# Altium footprint library MountingHole.PcbLib: 167 footprints (part 5 of 11)
Each footprint in its own frame and in the unit in brackets; x right, y up, seen from the top. Pads: shape width x height; smd on the part's side, far side on the other; paste and mask are expansions set on the pad; w line width, h text height; cw(c..) or ccw(c..) is an arc to the next point about the centre after c.
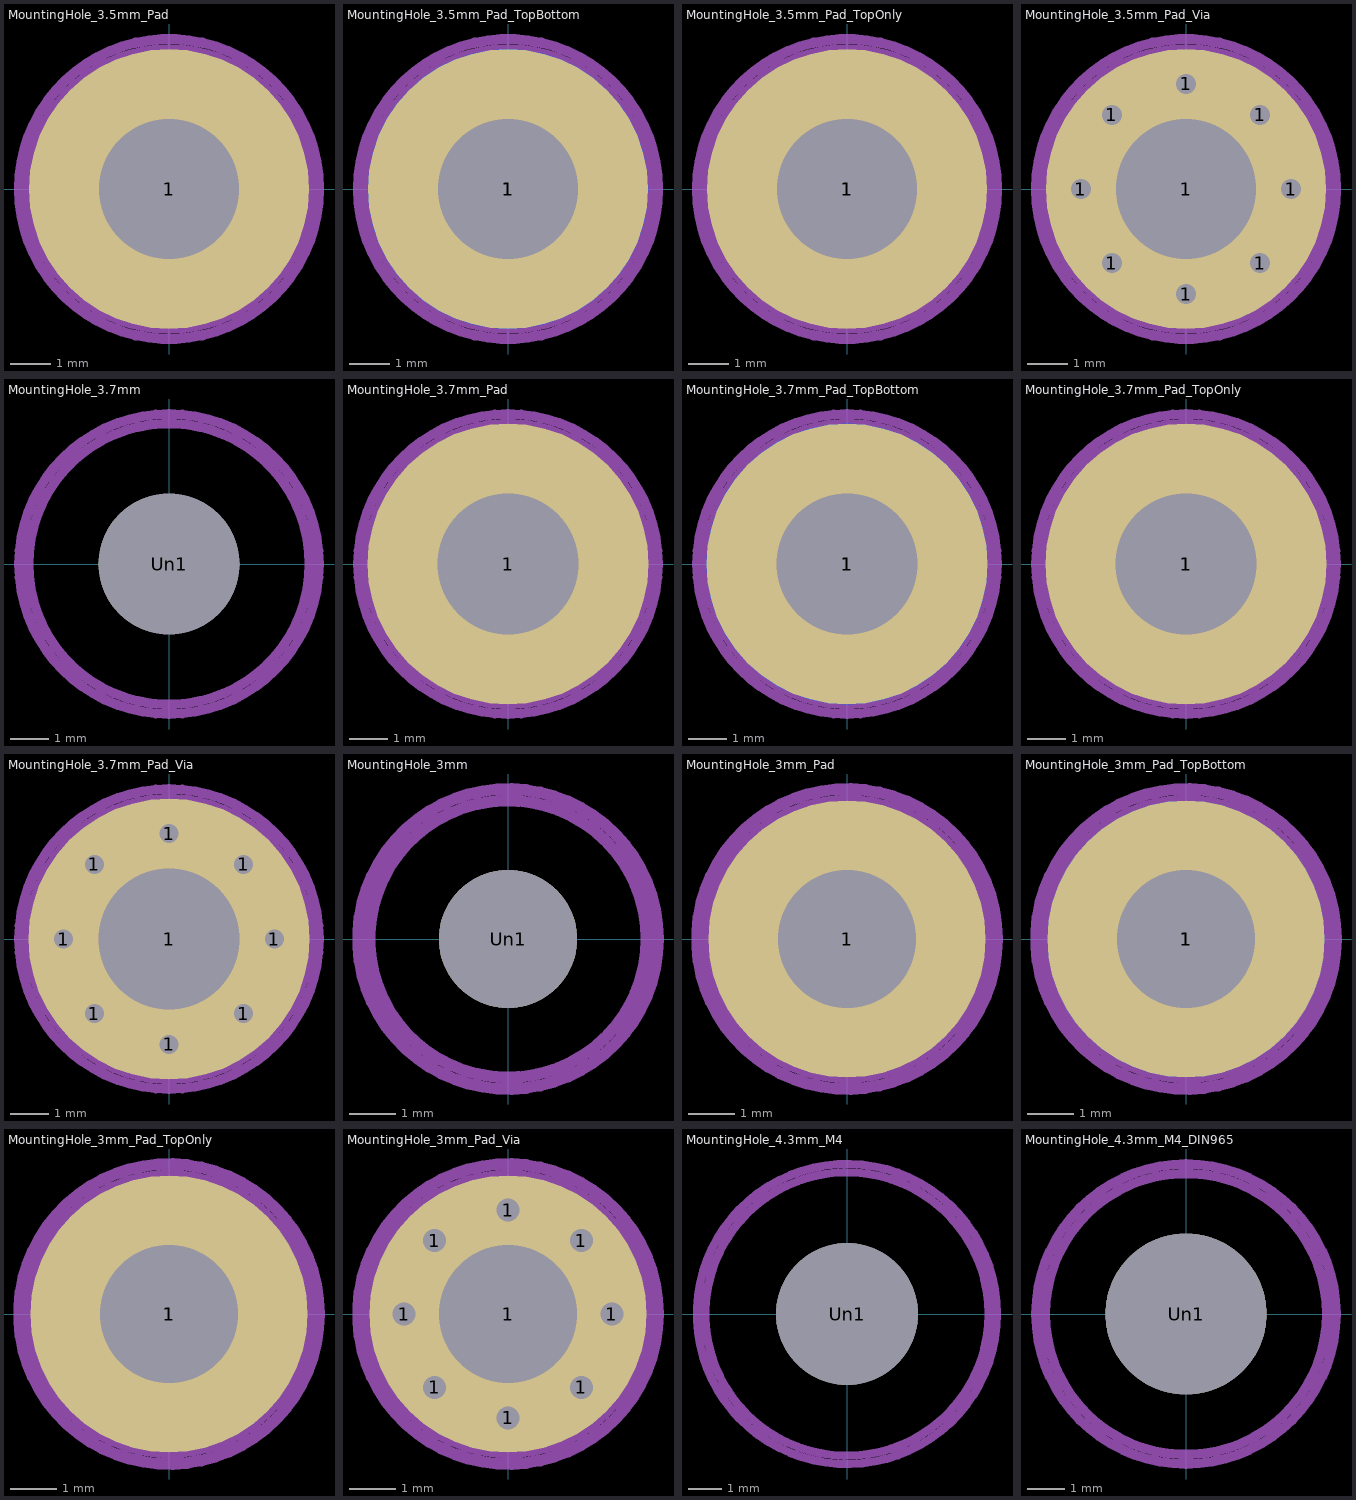
[diagram p4: the footprints below, top view; thin cyan lines are the x and y axes]

## MountingHole_3.5mm_Pad [mm]
pads (1):
  round 7 hole 3.5: 1(0,0)
Top Assembly:
  text "'.Designator'" at -4.047,-0.84 h1
Top Courtyard:
  circle w0.254: c0,0 r3.75
Top Designator:
  text ".Designator" at -7.768,-0.508 h1.52
Cmts.User:
  circle w0.254: c0,0 r3.5

## MountingHole_3.5mm_Pad_TopBottom [mm]
pads (3):
  round 3.9 hole 3.5: 1(0,0)
  round 7 smd: 1(0,0)
  round 7 smd far side: 1(0,0)
Top Assembly:
  text "'.Designator'" at -4.047,-0.84 h1
Top Courtyard:
  circle w0.254: c0,0 r3.75
Top Designator:
  text ".Designator" at -7.768,-0.508 h1.52
Cmts.User:
  circle w0.254: c0,0 r3.5

## MountingHole_3.5mm_Pad_TopOnly [mm]
pads (2):
  round 3.9 hole 3.5: 1(0,0)
  round 7 smd: 1(0,0)
Top Assembly:
  text "'.Designator'" at -4.047,-0.84 h1
Top Courtyard:
  circle w0.254: c0,0 r3.75
Top Designator:
  text ".Designator" at -7.768,-0.508 h1.52
Cmts.User:
  circle w0.254: c0,0 r3.5

## MountingHole_3.5mm_Pad_Via [mm]
pads (9):
  round 0.8 hole 0.5: 1(-2.625,0) 1(-1.856,-1.856) 1(-1.856,1.856) 1(0,-2.625) 1(0,2.625) 1(1.856,-1.856) 1(1.856,1.856) 1(2.625,0)
  round 7 hole 3.5: 1(0,0)
Top Assembly:
  text "'.Designator'" at -4.047,-0.84 h1
Top Courtyard:
  circle w0.254: c0,0 r3.75
Top Designator:
  text ".Designator" at -7.768,-0.508 h1.52
Cmts.User:
  circle w0.254: c0,0 r3.5

## MountingHole_3.7mm [mm]
pads (1):
  round 3.7 hole 3.7: Un1(0,0)
Top Assembly:
  text "'.Designator'" at -4.047,-0.84 h1
Top Courtyard:
  circle w0.254: c0,0 r3.95
Top Designator:
  text ".Designator" at -7.677,-0.508 h1.52
Cmts.User:
  circle w0.254: c0,0 r3.7

## MountingHole_3.7mm_Pad [mm]
pads (1):
  round 7.4 hole 3.7: 1(0,0)
Top Assembly:
  text "'.Designator'" at -4.047,-0.84 h1
Top Courtyard:
  circle w0.254: c0,0 r3.95
Top Designator:
  text ".Designator" at -7.677,-0.508 h1.52
Cmts.User:
  circle w0.254: c0,0 r3.7

## MountingHole_3.7mm_Pad_TopBottom [mm]
pads (3):
  round 4.1 hole 3.7: 1(0,0)
  round 7.4 smd: 1(0,0)
  round 7.4 smd far side: 1(0,0)
Top Assembly:
  text "'.Designator'" at -4.047,-0.84 h1
Top Courtyard:
  circle w0.254: c0,0 r3.95
Top Designator:
  text ".Designator" at -7.677,-0.508 h1.52
Cmts.User:
  circle w0.254: c0,0 r3.7

## MountingHole_3.7mm_Pad_TopOnly [mm]
pads (2):
  round 4.1 hole 3.7: 1(0,0)
  round 7.4 smd: 1(0,0)
Top Assembly:
  text "'.Designator'" at -4.047,-0.84 h1
Top Courtyard:
  circle w0.254: c0,0 r3.95
Top Designator:
  text ".Designator" at -7.677,-0.508 h1.52
Cmts.User:
  circle w0.254: c0,0 r3.7

## MountingHole_3.7mm_Pad_Via [mm]
pads (9):
  round 0.8 hole 0.5: 1(-2.775,0) 1(-1.962,-1.962) 1(-1.962,1.962) 1(0,-2.775) 1(0,2.775) 1(1.962,-1.962) 1(1.962,1.962) 1(2.775,0)
  round 7.4 hole 3.7: 1(0,0)
Top Assembly:
  text "'.Designator'" at -4.047,-0.84 h1
Top Courtyard:
  circle w0.254: c0,0 r3.95
Top Designator:
  text ".Designator" at -7.677,-0.508 h1.52
Cmts.User:
  circle w0.254: c0,0 r3.7

## MountingHole_3mm [mm]
pads (1):
  round 3 hole 3: Un1(0,0)
Top Assembly:
  text "'.Designator'" at -4.047,-0.84 h1
Top Courtyard:
  circle w0.254: c0,0 r3.25
Top Designator:
  text ".Designator" at -7.768,-0.508 h1.52
Cmts.User:
  circle w0.254: c0,0 r3

## MountingHole_3mm_Pad [mm]
pads (1):
  round 6 hole 3: 1(0,0)
Top Assembly:
  text "'.Designator'" at -4.047,-0.84 h1
Top Courtyard:
  circle w0.254: c0,0 r3.25
Top Designator:
  text ".Designator" at -7.768,-0.508 h1.52
Cmts.User:
  circle w0.254: c0,0 r3

## MountingHole_3mm_Pad_TopBottom [mm]
pads (3):
  round 3.4 hole 3: 1(0,0)
  round 6 smd: 1(0,0)
  round 6 smd far side: 1(0,0)
Top Assembly:
  text "'.Designator'" at -4.047,-0.84 h1
Top Courtyard:
  circle w0.254: c0,0 r3.25
Top Designator:
  text ".Designator" at -7.768,-0.508 h1.52
Cmts.User:
  circle w0.254: c0,0 r3

## MountingHole_3mm_Pad_TopOnly [mm]
pads (2):
  round 3.4 hole 3: 1(0,0)
  round 6 smd: 1(0,0)
Top Assembly:
  text "'.Designator'" at -4.047,-0.84 h1
Top Courtyard:
  circle w0.254: c0,0 r3.25
Top Designator:
  text ".Designator" at -7.768,-0.508 h1.52
Cmts.User:
  circle w0.254: c0,0 r3

## MountingHole_3mm_Pad_Via [mm]
pads (9):
  round 0.8 hole 0.5: 1(-2.25,0) 1(-1.591,-1.591) 1(-1.591,1.591) 1(0,-2.25) 1(0,2.25) 1(1.591,-1.591) 1(1.591,1.591) 1(2.25,0)
  round 6 hole 3: 1(0,0)
Top Assembly:
  text "'.Designator'" at -4.047,-0.84 h1
Top Courtyard:
  circle w0.254: c0,0 r3.25
Top Designator:
  text ".Designator" at -7.768,-0.508 h1.52
Cmts.User:
  circle w0.254: c0,0 r3

## MountingHole_4.3mm_M4 [mm]
pads (1):
  round 4.3 hole 4.3: Un1(0,0)
Top Assembly:
  text "'.Designator'" at -4.047,-0.84 h1
Top Courtyard:
  circle w0.254: c0,0 r4.55
Top Designator:
  text ".Designator" at -7.618,-0.508 h1.52
Cmts.User:
  circle w0.254: c0,0 r4.3

## MountingHole_4.3mm_M4_DIN965 [mm]
pads (1):
  round 4.3 hole 4.3: Un1(0,0)
Top Assembly:
  text "'.Designator'" at -4.047,-0.84 h1
Top Courtyard:
  circle w0.254: c0,0 r4
Top Designator:
  text ".Designator" at -7.652,-0.508 h1.52
Cmts.User:
  circle w0.254: c0,0 r3.75